# Altium schematic symbol library OTHER.SchLib: 4 symbols
Pins are listed as number, name and electrical type; pins without a type are passive.

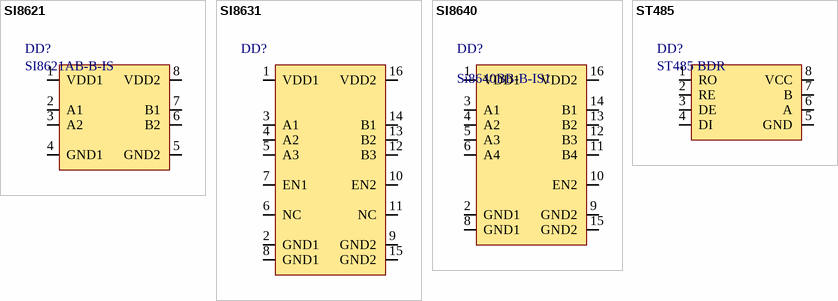
[diagram p0: symbols SI8621 to ST485]

## SI8621
designator DD?, comment SI8621AB-B-IS
Name: SI8621AB-B-IS
footprint SOIC-8N (SOIC, 8-Leads, Body 4,90x3,90mm, Pitch 1,27mm, IPC Medium Density)
pins: 1 VDD1 (power), 2 A1 (in), 3 A2 (out), 4 GND1 (power), 5 GND2 (power), 6 B2 (in), 7 B1 (out), 8 VDD2 (power)

## SI8631
designator DD?, comment SI8631 AB-B-IS  (value not drawn)
Name: SI8631 AB-B-IS
footprint SOIC127P1030X265-16N (SOIC, 16-Leads, Body 10,30x7,50mm, Pitch 1,27mm, IPC Medium Density)
pins: 1 VDD1 (power), 2 GND1 (power), 3 A1 (in), 4 A2 (in), 5 A3 (out), 6 NC, 7 EN1 (in), 8 GND1 (power), 9 GND2 (power), 10 EN2 (in), 11 NC, 12 B3 (in), 13 B2 (out), 14 B1 (out), 15 GND2 (power), 16 VDD2 (power)

## SI8640
designator DD?, comment Si8640BB-B-IS1
Name: Si8640BB-B-IS1
footprint SOIC127P1030X265-16N (SOIC, 16-Leads, Body 10,30x7,50mm, Pitch 1,27mm, IPC Medium Density)
pins: 1 VDD1 (power), 2 GND1 (power), 3 A1 (in), 4 A2 (in), 5 A3 (in), 6 A4 (in), 8 GND1 (power), 9 GND2 (power), 10 EN2 (in), 11 B4 (out), 12 B3 (out), 13 B2 (out), 14 B1 (out), 15 GND2 (power), 16 VDD2 (power)

## ST485
designator DD?, comment ST485 BDR
Name: ST485 BDR
footprint SOIC-8N (SOIC, 8-Leads, Body 4,90x3,90mm, Pitch 1,27mm, IPC Medium Density)
pins: 1 RO (out), 2 RE (in), 3 DE (in), 4 DI (in), 5 GND (power), 6 A (io), 7 B (io), 8 VCC (power)